# Altium footprint library Flex_TSOP65P640-8AM.PcbLib: 1 footprints
Each footprint in its own frame and in the unit in brackets; x right, y up, seen from the top. Pads: shape width x height; smd on the part's side, far side on the other; paste and mask are expansions set on the pad; w line width, h text height; cw(c..) or ccw(c..) is an arc to the next point about the centre after c.
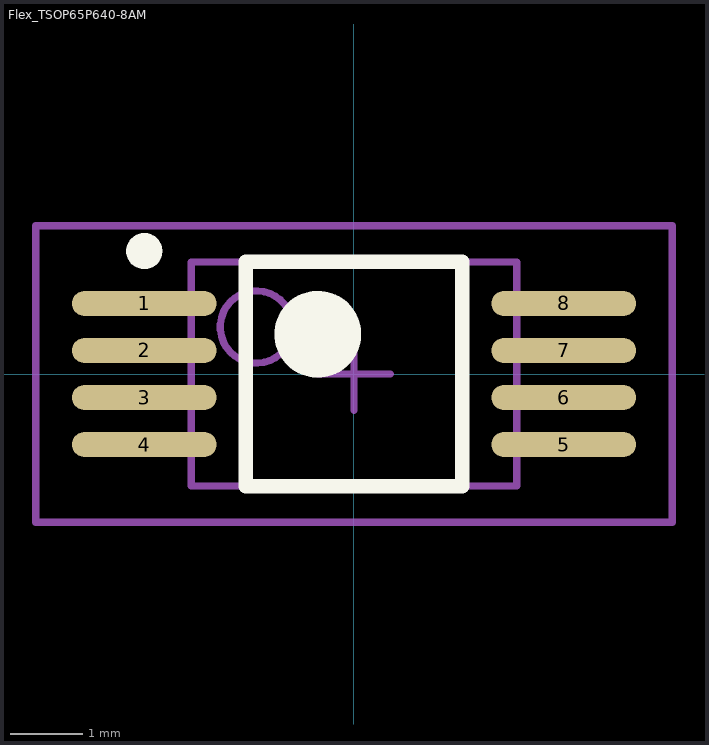
[diagram p0: the footprint, top view; thin cyan lines are the x and y axes]

## Flex_TSOP65P640-8AM [mm] "TSOP, 8-Leads, Body 3x4.4mm, Pitch 0.65mm, Flex"
height 1.1
pads (8):
  oval 2x0.35 smd paste-25.375 mask-25.375: 1(-2.9,0.975) 2(-2.9,0.325) 3(-2.9,-0.325) 4(-2.9,-0.975) 5(2.9,-0.975) 6(2.9,-0.325) 7(2.9,0.325) 8(2.9,0.975)
Top Overlay:
  circle w0.25: c-2.9,1.7 r0.125
  circle w0.6: c-0.5,0.55 r0.3
  lines w0.2: -1.5,-1.55 -1.5,1.55 1.5,1.55 1.5,-1.55 -1.5,-1.55
Top Paste:
  lines w0.25: -3.413,-0.975 -2.438,-0.975 ; -3.413,-0.325 -2.438,-0.325 ; -3.413,0.325 -2.438,0.325 ; -3.413,0.975 -2.438,0.975 ; 2.438,-0.975 3.413,-0.975 ; 2.438,-0.325 3.413,-0.325 ; 2.438,0.325 3.413,0.325 ; 2.438,0.975 3.413,0.975
Top Solder:
  region: -3.575,-0.975 -3.581,0.975 -3.556,1.102 -3.484,1.209 -3.377,1.281 -3.25,1.306 -3.25,1.3 -2.6,1.306 -2.473,1.281 -2.366,1.209 -2.294,1.102 -2.269,0.975 -2.275,0.975 -2.269,-0.975 -2.294,-1.102 -2.366,-1.209 -2.473,-1.281 -2.6,-1.306 -2.6,-1.3 -3.25,-1.306 -3.377,-1.281 -3.484,-1.209 -3.556,-1.102 -3.581,-0.975
  region: 2.275,-0.975 2.269,0.975 2.294,1.102 2.366,1.209 2.473,1.281 2.6,1.306 2.6,1.3 3.25,1.306 3.377,1.281 3.484,1.209 3.556,1.102 3.581,0.975 3.575,0.975 3.581,-0.975 3.556,-1.102 3.484,-1.209 3.377,-1.281 3.25,-1.306 3.25,-1.3 2.6,-1.306 2.473,-1.281 2.366,-1.209 2.294,-1.102 2.269,-0.975
Mechanical 13:
  circle w0.1: c-1.35,0.65 r0.5
  lines w0.1: -2.25,-1.55 -2.25,1.55 2.25,1.55 2.25,-1.55 -2.25,-1.55
Mechanical 15:
  lines w0.1: -0.5,0 0.5,0 ; 0,-0.5 0,0.5 ; -4.4,-2.05 -4.4,2.05 4.4,2.05 4.4,-2.05 -4.4,-2.05
3D body: height 1.1, standoff 0, extent -2.25,-1.55 2.25,1.55